# Altium footprint library TPCA8120.PcbLib: 1 footprints
Each footprint in its own frame and in the unit in brackets; x right, y up, seen from the top. Pads: shape width x height; smd on the part's side, far side on the other; paste and mask are expansions set on the pad; w line width, h text height; cw(c..) or ccw(c..) is an arc to the next point about the centre after c.
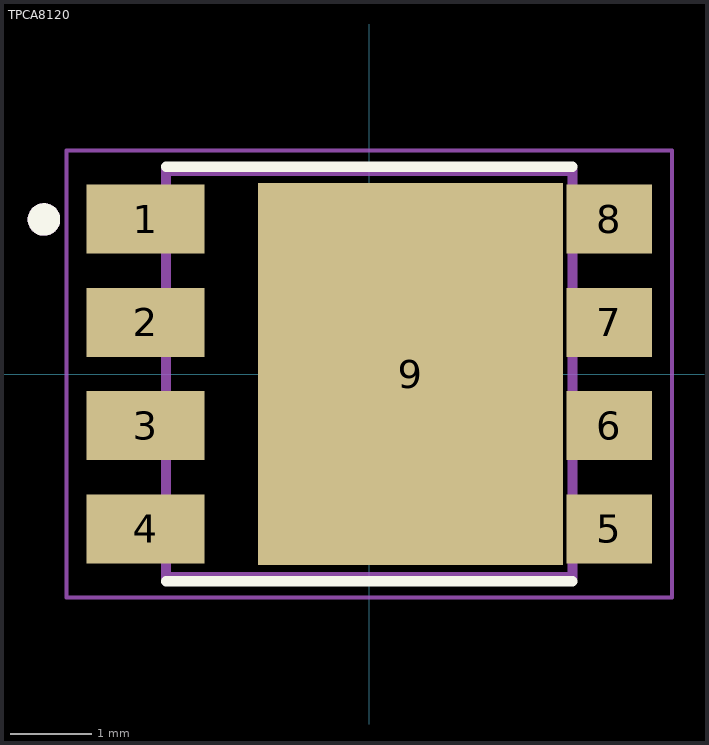
[diagram p0: the footprint, top view; thin cyan lines are the x and y axes]

## TPCA8120 [mm]
pads (9):
  rect 1.45x0.85 smd: 1(-2.75,1.905) 2(-2.75,0.635) 3(-2.75,-0.635) 4(-2.75,-1.905)
  rect 1.05x0.85 smd: 5(2.95,-1.905) 6(2.95,-0.635) 7(2.95,0.635) 8(2.95,1.905)
  rect 3.75x4.7 smd paste-3: 9(0.508,0)
Top Overlay:
  circle w0.2: c-4,1.9 r0.1
  lines w0.127: -2.5,-2.55 2.5,-2.55 ; -2.5,2.55 2.5,2.55
Top Paste:
  region: 2.04,-1.186 -0.94,-1.186 -0.94,1.186 2.04,1.186
Mechanical 13:
  circle w0.2: c-4,1.9 r0.1
  lines w0.127: -2.5,-2.5 2.5,-2.5 2.5,2.5 -2.5,2.5 -2.5,-2.5
Mechanical 15:
  lines w0.05: -3.725,-2.75 3.725,-2.75 3.725,2.75 -3.725,2.75 -3.725,-2.75
3D body "TPCA8120.STEP": height 1, standoff 0, extent -3,-2.65 3,2.65